# EAGLE library part TSZZ10/01M (library trafo)
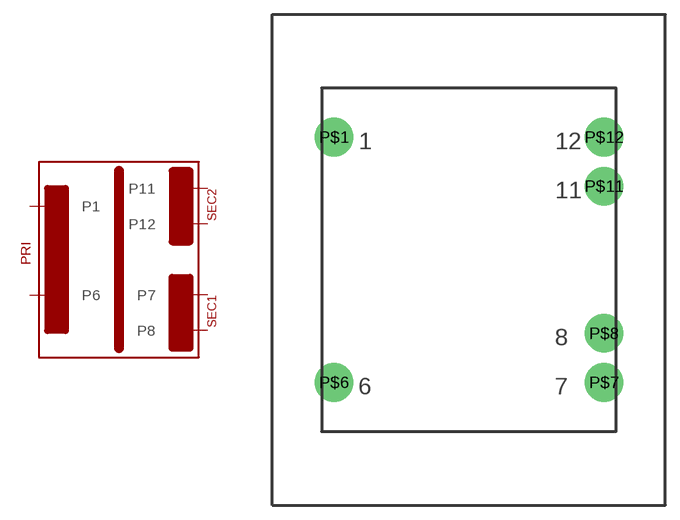
[diagram p53: symbol with the pads of TSZZ10/01M; footprint TSZZ10/01M]

Designator prefix -

## TSZZ10/01M  [TSZZ10/01M]
P$1  P1
P$6  P6
P$7  P7
P$8  P8
P$11  P11
P$12  P12

## Footprint TSZZ10/01M (pad centres in mm)
drill 0.9 pad 4 round: P$1 -12.7,12.7; P$6 -12.7,-12.7; P$7 15.24,-12.7; P$8 15.24,-7.62; P$11 15.24,7.62; P$12 15.24,12.7